# Altium schematic symbol library pqm_v2_lib_diodos.SchLib: 3 symbols
Pins are listed as number, name and electrical type; pins without a type are passive.

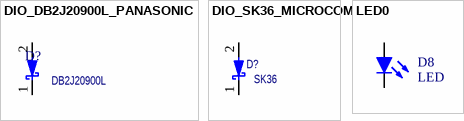
[diagram p0: symbols DIO_DB2J20900L_PANASONIC to LED0]

## DIO_DB2J20900L_PANASONIC
designator D?  value DB2J20900L  (hidden comment: *)
DIODE SCHOTTKY 20V 500MA SMINI2; Manufacturer: Panasonic; Digikey Part Number: DB2J20900LCT-ND; Supplier: *; Supplier Part No: *; Tolerance: *; Power Rating: *; Voltage Rating: 20V; BOM Populate: *; Manufacturer Part Number: DB2J20900L; Mouser Part Number: 667-DB2J20900L
footprint SOD2512X097N (SOD-323, 2 Lead, Conforming to JEITA SC90 standard // Source: SOD-323 Package 2008, Fairchild)
pins: 1 K, 2 A

## DIO_SK36_MICROCOM
designator D?  value SK36  (hidden comment: *)
DIODE SCHOTTKY 60V 3A SMC; Manufacturer: Micro Commercial Co; Manufacturer Part Number: SK36-TP; BOM Populate: *; Voltage Rating: 60V; Supplier Part No: *; Supplier: *; Digikey Part Number: SK36-TPMSCT-ND; Tolerance: *; Power Rating: *; Mouser Part Number: 833-SK36-TP
footprint DIOM7959X262N (Molded Diode, JEDEC DO-214AB (SMC), 7.9mmX5.9mm)
pins: 1 K, 2 A

## LED0
designator D8, comment LED
Published: 8-Jun-2000; LatestRevisionDate: 08-Jul-2005; LatestRevisionNote: Mech Layer 1 removed.; PackageReference: LED-0; Publisher: Altium Limited
footprint Led
pins: 1 A, 2 K